# EAGLE library part LM3046 (library 6301-temp-sensor-rev1)
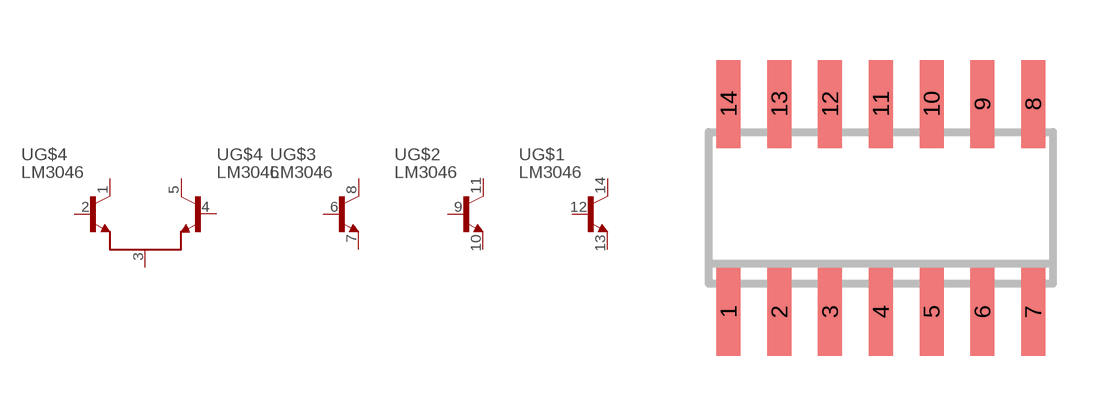
[diagram p6: symbol with the pads of SO14; footprint SO14]

Designator prefix -; gates G$1=NPN G$2=NPN G$3=NPN G$4=NPN_DIFFPAIR

## LM3046  [SO14]
1  G$4:C  pas
2  G$4:B  pas
3  G$4:E  pas
4  G$4:BR  pas
5  G$4:CR  pas
6  G$3:B  pas
7  G$3:E  pas
8  G$3:C  pas
9  G$2:B  pas
10  G$2:E  pas
11  G$2:C  pas
12  G$1:B  pas
13  G$1:E  pas
14  G$1:C  pas

## Footprint SO14 (pad centres in mm)
SMALL OUTLINE INTEGRATED CIRCUIT body 3.9 mm/JEDEC MS-012AC
smd 0.6 x 2.2: 1 -3.81,-2.6; 2 -2.54,-2.6; 3 -1.27,-2.6; 4 0,-2.6; 5 1.27,-2.6; 6 2.54,-2.6; 7 3.81,-2.6; 8 3.81,2.6; 9 2.54,2.6; 10 1.27,2.6; 11 0,2.6; 12 -1.27,2.6; 13 -2.54,2.6; 14 -3.81,2.6